# Altium schematic symbol library SCH - POWER - SWITCHMODE - TI TPS8268090SIP.SchLib: 1 symbol
Pins are listed as number, name and electrical type; pins without a type are passive.

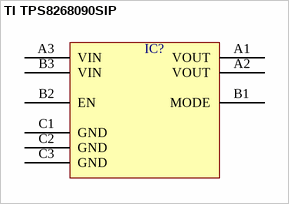
[diagram p0: symbol TI TPS8268090SIP]

## TI TPS8268090SIP
designator IC?  (value not drawn)
pins: A1 VOUT, A2 VOUT, A3 VIN, B1 MODE, B2 EN, B3 VIN, C1 GND, C2 GND, C3 GND